# Altium schematic symbol library Supervisors.SchLib: 3 symbols
Pins are listed as number, name and electrical type; pins without a type are passive.

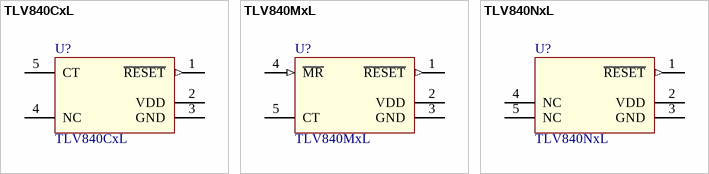
[diagram p0: symbols TLV840CxL to TLV840NxL]

## TLV840CxL
designator U?
Nano-Power Ultra-Low Voltage Supervisor with Adjustable Reset Time Delay; value: TLV840CxL
footprint SOT-23-5 (Footprint not found)
pins: 1 ~{RESET} (out), 2 VDD (power), 3 GND (power), 4 NC, 5 CT

## TLV840MxL
designator U?
Nano-Power Ultra-Low Voltage Supervisor with Adjustable Reset Time Delay; value: TLV840MxL
footprint SOT-23-5 (Footprint not found)
pins: 1 ~{RESET} (out), 2 VDD (power), 3 GND (power), 4 ~{MR} (in), 5 CT

## TLV840NxL
designator U?
Nano-Power Ultra-Low Voltage Supervisor with Adjustable Reset Time Delay; value: TLV840NxL
footprint SOT-23-5 (Footprint not found)
pins: 1 ~{RESET} (out), 2 VDD (power), 3 GND (power), 4 NC, 5 NC